# EAGLE library part AD5231 (library analog-devices)
DIGITAL POTENTIOMETER 1024 STEP
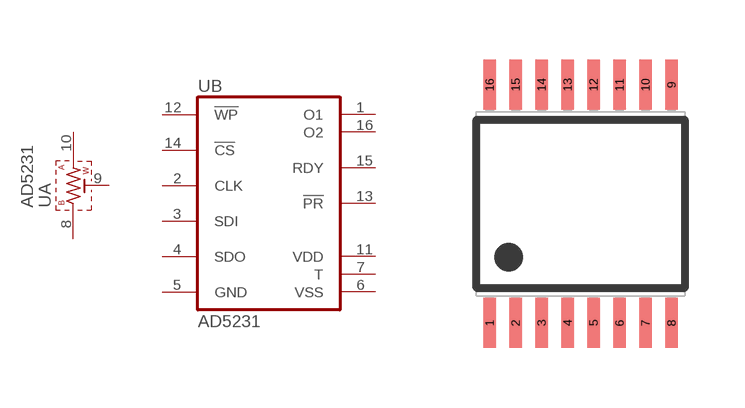
[diagram p92: symbol with the pads of TSSOP16; footprint TSSOP16]

Designator prefix U; gates A=DIGI-POT B=AD5231

## AD5231  [TSSOP16]
1  B:O1  out
2  B:CLK  in
3  B:SDI  in
4  B:SDO  out
5  B:GND  pwr
6  B:VSS  pwr
7  B:T  in
8  A:B  pas
9  A:W  pas
10  A:A  pas
11  B:VDD  pwr
12  B:!WP!
13  B:!PR!  oc
14  B:!CS  in
15  B:RDY  oc
16  B:O2  out

## Footprint TSSOP16 (pad centres in mm)
Thin Shrink Small Outline Plastic 16
smd 0.31 x 1.25: 1 -2.275,-2.98; 2 -1.625,-2.98; 3 -0.975,-2.98; 4 -0.325,-2.98; 5 0.325,-2.98; 6 0.975,-2.98; 7 1.625,-2.98; 8 2.275,-2.98; 9 2.275,2.98; 10 1.625,2.98; 11 0.975,2.98; 12 0.325,2.98; 13 -0.325,2.98; 14 -0.975,2.98; 15 -1.625,2.98; 16 -2.275,2.98